# Altium footprint library PcbLib4.PcbLib: 2 footprints
Each footprint in its own frame and in the unit in brackets; x right, y up, seen from the top. Pads: shape width x height; smd on the part's side, far side on the other; paste and mask are expansions set on the pad; w line width, h text height; cw(c..) or ccw(c..) is an arc to the next point about the centre after c.
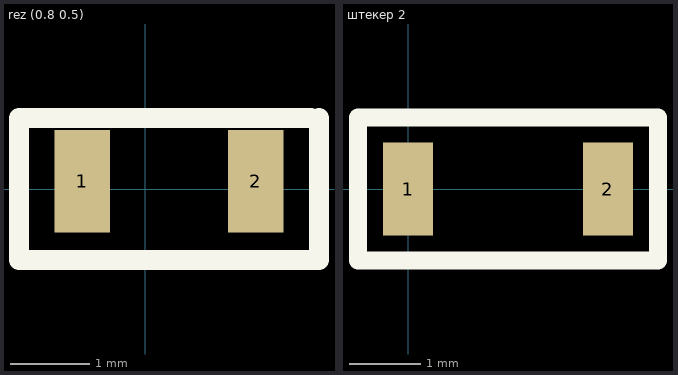
[diagram p0: the footprints below, top view; thin cyan lines are the x and y axes]

## rez (0.8 0.5) [mm]
pads (2):
  rect 0.7x1.3 smd: 1(-0.8,0.1) 2(1.4,0.1)
Top Overlay:
  lines w0.254: 2.1,0.9 1.5,0.9 -1.4,0.9 -1.6,0.9 -1.6,-0.9 2.2,-0.9 2.2,0.9
3D body "CRG0805F33R.STEP": height 0.65, standoff 0, extent -0.7,-0.525 1.3,0.725

## штекер 2 [mm]
pads (2):
  rect 0.7x1.3 smd: 1(0,0) 2(2.8,0)
Top Overlay:
  lines w0.254: -0.7,-1 -0.7,1 3.5,1 3.5,-1 -0.7,-1